# EAGLE library part ATMEGA4809-PF (library ICs)
datasheet <https://www.microchip.com/wwwproducts/en/ATMEGA4809#datasheet-toggle>
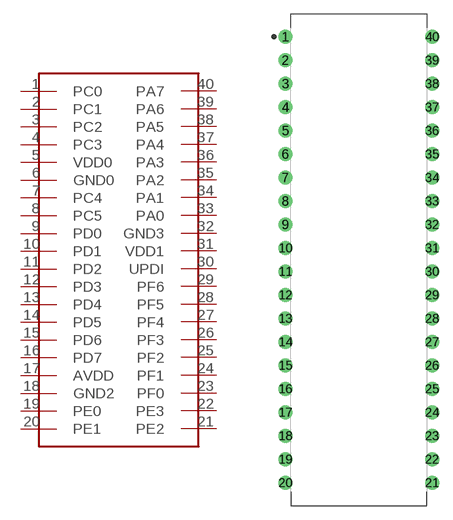
[diagram p14: symbol with the pads of DIP1587W58P254L5175H635Q40B; footprint DIP1587W58P254L5175H635Q40B]

Designator prefix -

## ATMEGA4809-PFATMEL4809-PF  [DIP1587W58P254L5175H635Q40B]
1  PC0
2  PC1
3  PC2
4  PC3
5  VDD0  pwr
6  GND0
7  PC4
8  PC5
9  PD0
10  PD1
11  PD2
12  PD3
13  PD4
14  PD5
15  PD6
16  PD7
17  AVDD  pwr
18  GND2
19  PE0
20  PE1
21  PE2
22  PE3
23  PF0
24  PF1
25  PF2
26  PF3
27  PF4
28  PF5
29  PF6
30  UPDI
31  VDD1  pwr
32  GND3
33  PA0
34  PA1
35  PA2
36  PA3
37  PA4
38  PA5
39  PA6
40  PA7

## Footprint DIP1587W58P254L5175H635Q40B (pad centres in mm)
40-DIP, 2.54 mm (0.10 in) pitch, 15.88 mm (0.63 in) span, 51.75 X 13.53 X 6.35 mm body 40-pin DIP package with 2.54 mm (0.10 in) pitch, 15.88 mm (0.63 in) span with body size 51.75 X 13.53 X 6.35 mm
drill 0.894 pad 1.494: 1 -7.938,24.13; 2 -7.938,21.59; 3 -7.938,19.05; 4 -7.938,16.51; 5 -7.938,13.97; 6 -7.938,11.43; 7 -7.938,8.89; 8 -7.938,6.35; 9 -7.938,3.81; 10 -7.938,1.27; 11 -7.938,-1.27; 12 -7.938,-3.81; 13 -7.938,-6.35; 14 -7.938,-8.89; 15 -7.938,-11.43; 16 -7.938,-13.97; 17 -7.938,-16.51; 18 -7.938,-19.05; 19 -7.938,-21.59; 20 -7.938,-24.13; 21 7.938,-24.13; 22 7.938,-21.59; 23 7.938,-19.05; 24 7.938,-16.51; 25 7.938,-13.97; 26 7.938,-11.43; 27 7.938,-8.89; 28 7.938,-6.35; 29 7.938,-3.81; 30 7.938,-1.27; 31 7.938,1.27; 32 7.938,3.81; 33 7.938,6.35; 34 7.938,8.89; 35 7.938,11.43; 36 7.938,13.97; 37 7.938,16.51; 38 7.938,19.05; 39 7.938,21.59; 40 7.938,24.13